# EAGLE library part SA007-LCD (library sa007-lcd)
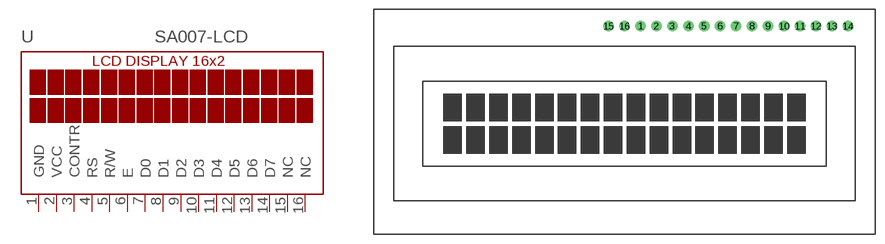
[diagram p1: symbol with the pads of SA007-LCD; footprint SA007-LCD]

Designator prefix -

## SA007-LCD  [SA007-LCD]
1  GND  pwr
2  VCC  pwr
3  CONTR  in
4  RS  in
5  R/W  in
6  E  in
7  D0  in
8  D1  in
9  D2  in
10  D3  in
11  D4  in
12  D5  in
13  D6  in
14  D7  in
15  NC  nc
16  NC  nc

## Footprint SA007-LCD (pad centres in mm)
drill 1 pad 1.676: 1 2.54,12.7; 2 5.08,12.7; 3 7.62,12.7; 4 10.16,12.7; 5 12.7,12.7; 6 15.24,12.7; 7 17.78,12.7; 8 20.32,12.7; 9 22.86,12.7; 10 25.4,12.7; 11 27.94,12.7; 12 30.48,12.7; 13 33.02,12.7; 14 35.56,12.7; 15 -2.54,12.7; 16 0,12.7